# Altium schematic symbol library ADC01.SchLib: 1 symbol
Pins are listed as number, name and electrical type; pins without a type are passive.

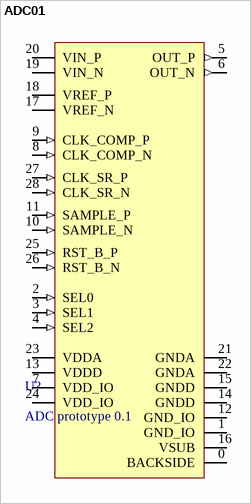
[diagram p0: symbol ADC01]

## ADC01
designator U?, comment ADC prototype 0.1
footprint ADC01
pins: 0 BACKSIDE (power), 1 GND_IO (power), 2 SEL0 (in), 3 SEL1 (in), 4 SEL2 (in), 5 OUT_P (out), 6 OUT_N (out), 7 VDD_IO (power), 8 CLK_COMP_N (in), 9 CLK_COMP_P (in), 10 SAMPLE_N (in), 11 SAMPLE_P (in), 12 GND_IO (power), 13 VDDD (power), 14 GNDD (power), 15 GNDD (power), 16 VSUB (power), 17 VREF_N, 18 VREF_P, 19 VIN_N, 20 VIN_P, 21 GNDA (power), 22 GNDA (power), 23 VDDA (power), 24 VDD_IO (power), 25 RST_B_P (in), 26 RST_B_N (in), 27 CLK_SR_P (in), 28 CLK_SR_N (in)